# Altium schematic symbol library CD4066.SchLib: 1 symbol
Pins are listed as number, name and electrical type; pins without a type are passive.

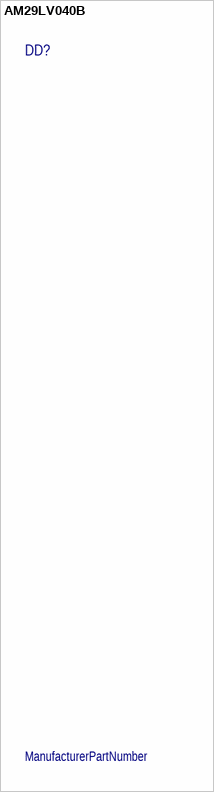
[diagram p0: symbol AM29LV040B]

## AM29LV040B
designator DD?  (value not drawn)
ManufacturerPartNumber: ManufacturerPartNumber